# Altium schematic symbol library 测试点.SchLib: 1 symbol
Pins are listed as number, name and electrical type; pins without a type are passive.

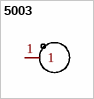
[diagram p0: symbol 5003]

## 5003
designator U??  (value not drawn)
Manufacturer: Keystone; Add into BOM: yes; Overall Length/Height: 7.62mm; Symbol: 5003; Device: 5003; Supplier: LCSC; Supplier Part: C238124; Manufacturer Part: 5003; JLCPCB Part Class: Extended Part; LCSC Part Name: 5003; Supplier Footprint: -; Datasheet: https://atta.szlcsc.com/upload/public/pdf/source/20211115/64B944F8418AA2CF0680BB1B201435FB.pdf; Convert to PCB: yes; Type: 测试环; Operational Height: -; Contact Resistance: -; Elastic Life: -; Rated Current: -; Rated Voltage: -; Contact Material: 磷青铜; Contact Plating: -; Operating Temperature Range: -
footprint TEST-TH_BD2.54-P1.39
pins: 1